# EAGLE library part JST_PBD_20P (library pimoroni-connectors)
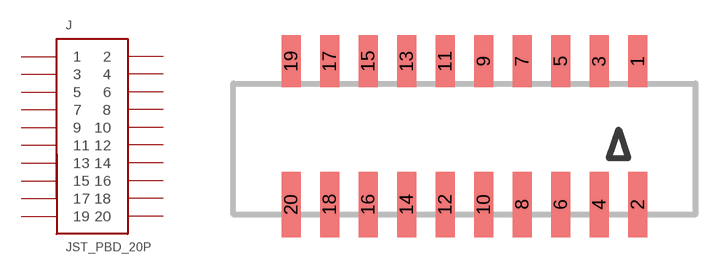
[diagram p33: symbol with the pads of JST_PBD_SM20B-PBDSS-TF; footprint JST_PBD_SM20B-PBDSS-TF]

Designator prefix J

## JST_PBD_20P  [JST_PBD_SM20B-PBDSS-TF]
1  1
2  2
3  3
4  4
5  5
6  6
7  7
8  8
9  9
10  10
11  11
12  12
13  13
14  14
15  15
16  16
17  17
18  18
19  19
20  20

## Footprint JST_PBD_SM20B-PBDSS-TF (pad centres in mm)
smd 1 x 2.7: 1 9,3.55; 3 7,3.55; 5 5,3.55; 7 3,3.55; 9 1,3.55; 11 -1,3.55; 13 -3,3.55; 15 -5,3.55; 17 -7,3.55; 19 -9,3.55
smd 1 x 3.4: 2 9,-3.9; 4 7,-3.9; 6 5,-3.9; 8 3,-3.9; 10 1,-3.9; 12 -1,-3.9; 14 -3,-3.9; 16 -5,-3.9; 18 -7,-3.9; 20 -9,-3.9